# EAGLE library part 690367292076 (library Eagle_BOARD-TO-BOARD_CONNECTORS (rev18b))
WR-MM Female SMT Connector with Latch and with Polarization, 20 Pins=>Code : Con_BTB_MM_Female_SMT_690367292076 <http://katalog.we-online.de/media/images/v2/WR-MiMo_69036729xx76.jpg> Details see: http://katalog.we-online.de/en/em/6903_6729_xx_76 Created 2014-06-04, Karrer Zheng 2014 (C) Würth Elektronik
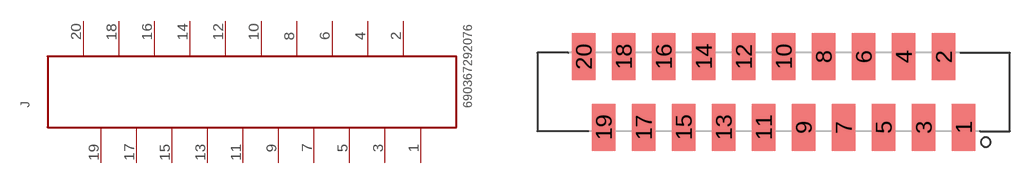
[diagram p367: symbol with the pads of 690367292076; footprint 690367292076]

Designator prefix J

## 690367292076  [690367292076]
1  1  pas
2  2  pas
3  3  pas
4  4  pas
5  5  pas
6  6  pas
7  7  pas
8  8  pas
9  9  pas
10  10  pas
11  11  pas
12  12  pas
13  13  pas
14  14  pas
15  15  pas
16  16  pas
17  17  pas
18  18  pas
19  19  pas
20  20  pas

## Footprint 690367292076 (pad centres in mm)
WR-MM Female SMT Connector with Latch and with Polarization, 20 pins
smd 1.5 x 3: 1 12.065,-2.25; 2 10.795,2.25; 3 9.525,-2.25; 4 8.255,2.25; 5 6.985,-2.25; 6 5.715,2.25; 7 4.445,-2.25; 8 3.175,2.25; 9 1.905,-2.25; 10 0.635,2.25; 11 -0.635,-2.25; 12 -1.905,2.25; 13 -3.175,-2.25; 14 -4.445,2.25; 15 -5.715,-2.25; 16 -6.985,2.25; 17 -8.255,-2.25; 18 -9.525,2.25; 19 -10.795,-2.25; 20 -12.065,2.25